# Altium schematic symbol library SCH - FET - P-CH - DIODES MOSFET P-CH SOT-23-3.SCHLIB: 1 symbol
Pins are listed as number, name and electrical type; pins without a type are passive.

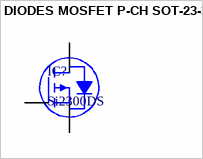
[diagram p0: symbol DIODES MOSFET P-CH SOT-23-3]

## DIODES MOSFET P-CH SOT-23-3
designator IC?, comment Si2300DS
footprint DIODES SOT-23-3 (SOT23, 3-Leads, Body 2.90x2.40mm, Pitch 0.95mm, IPC Medium Density)
pins: 1 G, 2 S, 3 D